# Altium footprint library xbee.PcbLib: 6 footprints
Each footprint in its own frame and in the unit in brackets; x right, y up, seen from the top. Pads: shape width x height; smd on the part's side, far side on the other; paste and mask are expansions set on the pad; w line width, h text height; cw(c..) or ccw(c..) is an arc to the next point about the centre after c.
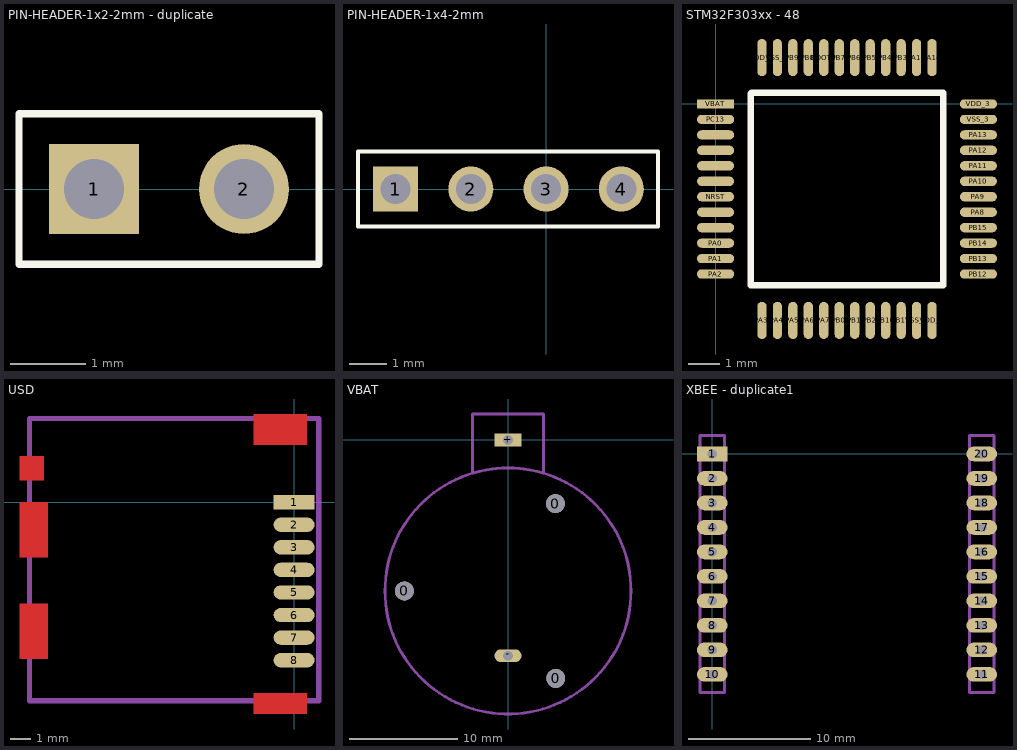
[diagram p0: the footprints below, top view; thin cyan lines are the x and y axes]

## PIN-HEADER-1x2-2mm - duplicate [mm] "Pin header, 2mm, 1x5"
pads (2):
  rect 1.2x1.2 hole 0.8 square: 1(-4,0)
  round 1.2 hole 0.8: 2(-2,0)
Top Overlay:
  lines w0.1: -5,-1 -5,1 -1,1 -1,-1 -5,-1

## PIN-HEADER-1x4-2mm [mm] "Pin header, 2mm, 1x5"
pads (4):
  rect 1.2x1.2 hole 0.8: 1(-4,0)
  round 1.2 hole 0.8: 2(-2,0) 3(0,0) 4(2,0)
Top Overlay:
  lines w0.1: -5,-1 -5,1 2.975,1 2.975,-1 -5,-1

## STM32F303xx - 48 [mm]
pads (48):
  oval 0.3x1.2 smd: BOOT0(3.5,1.5) PA3(1.5,-7) PA4(2,-7) PA5(2.5,-7) PA6(3,-7) PA7(3.5,-7) PA14(7,1.5) PA15(6.5,1.5) PB0(4,-7) PB1(4.5,-7) PB2(5,-7) PB3(6,1.5) PB4(5.5,1.5) PB5(5,1.5) PB6(4.5,1.5) PB7(4,1.5) PB8(3,1.5) PB9(2.5,1.5) PB10(5.5,-7) PB11(6,-7) VDD_1(1.5,1.5) VDD_2(7,-7) VSS_1(2,1.5) VSS_2(6.5,-7)
  oval 1.2x0.3 smd: NRST(0,-3) PA0(0,-4.5) PA1(0,-5) PA2(0,-5.5) PA8(8.5,-3.5) PA9(8.5,-3) PA10(8.5,-2.5) PA11(8.5,-2) PA12(8.5,-1.5) PA13(8.5,-1) PB12(8.5,-5.5) PB13(8.5,-5) PB14(8.5,-4.5) PB15(8.5,-4) PC13(0,-0.5) PC14/OSC32_IN(0,-1) PC15/OSC32_OUT(0,-1.5) PF0/OSC_IN(0,-2) PF1/OSC_OUT(0,-2.5) VDD_3(8.5,0) VDDA/VREF+(0,-4) VSS_3(8.5,-0.5) VSSA/VREF-(0,-3.5)
  rect 1.2x0.3 smd: VBAT(0,0)
Top Overlay:
  lines w0.2: 1.135,-5.865 1.135,0.335 1.165,0.365 7.365,0.365 7.365,-5.865 1.135,-5.865
3D body: height 1.6, standoff 0, extent 1.035,-5.965 7.465,0.465

## USD [mm]
pads (8):
  rect 2x0.7 smd: 1(0,0)
  oval 2x0.7 smd: 2(0,-1.1) 3(0,-2.2) 4(0,-3.3) 5(0,-4.4) 6(0,-5.5) 7(0,-6.6) 8(0,-7.7)
Top Layer:
  rectangle: -1.975,-10.325 0.625,-9.3
  rectangle: -1.975,2.8 0.625,4.3
  rectangle: -13.4,1.05 -12.2,2.25
  rectangle: -13.4,-2.7 -12,0
  rectangle: -13.4,-7.65 -12,-4.95
Mechanical 1:
  lines w0.254: -12.9,-9.675 -12.9,4.075 1.2,4.075 1.2,-9.675 -12.9,-9.675
3D body: height 1.78, standoff 0, extent -12.899,-9.674 1.199,4.074

## VBAT [mm]
pads (5):
  round 1.75 hole 1.75 unplated: 0(-9.6,-14) 0(4.4,-5.9) 0(4.425,-22.1)
  rect 2.5x1.2 hole 0.9: +(0,0)
  oval 2.5x1.2 hole 0.9: -(0,-20)
Mechanical 1:
  circle w0.254: c0,-14 r11.4
  lines w0.254: -3.3,-3.075 -3.3,2.4 0,2.4 3.3,2.4 3.3,1.031 3.3,-1.706 3.3,-3.075 ; -3.229,-3.067 cw(c0,-14) 3.252,-3.074
3D body: height 8.8, standoff 0, extent -11.41,-25.41 11.41,-2.59

## XBEE - duplicate1 [mm]
pads (20):
  rect 2.5x1.2 hole 0.75: 1(0,0)
  oval 2.5x1.2 hole 0.75: 2(0,-2) 3(0,-4) 4(0,-6) 5(0,-8) 6(0,-10) 7(0,-12) 8(0,-14) 9(0,-16) 10(0,-18) 11(22,-18) 12(22,-16) 13(22,-14) 14(22,-12) 15(22,-10) 16(22,-8) 17(22,-6) 18(22,-4) 19(22,-2) 20(22,0)
Mechanical 1:
  lines w0.254: -1,-19.475 -1,1.5 0.975,1.5 1,1.475 1,-19.475 -1,-19.475 ; 21,-19.475 21,1.5 23,1.5 23,-19.475 21,-19.475
3D body: height 4.5, standoff 0, extent 21.001,-19.474 22.999,1.499
3D body: height 4.5, standoff 0, extent -1.001,-19.476 1.001,1.501